# Altium schematic symbol library MAX6043.SchLib: 1 symbol
Pins are listed as number, name and electrical type; pins without a type are passive.

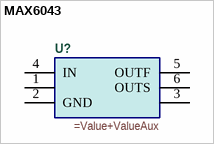
[diagram p0: symbol MAX6043]

## MAX6043
designator U?
=Description
pins: 1 NC, 2 GND, 3 NC, 4 IN, 5 OUTF, 6 OUTS